# Altium footprint library Module.PcbLib: 47 footprints (part 4 of 4)
Each footprint in its own frame and in the unit in brackets; x right, y up, seen from the top. Pads: shape width x height; smd on the part's side, far side on the other; paste and mask are expansions set on the pad; w line width, h text height; cw(c..) or ccw(c..) is an arc to the next point about the centre after c.
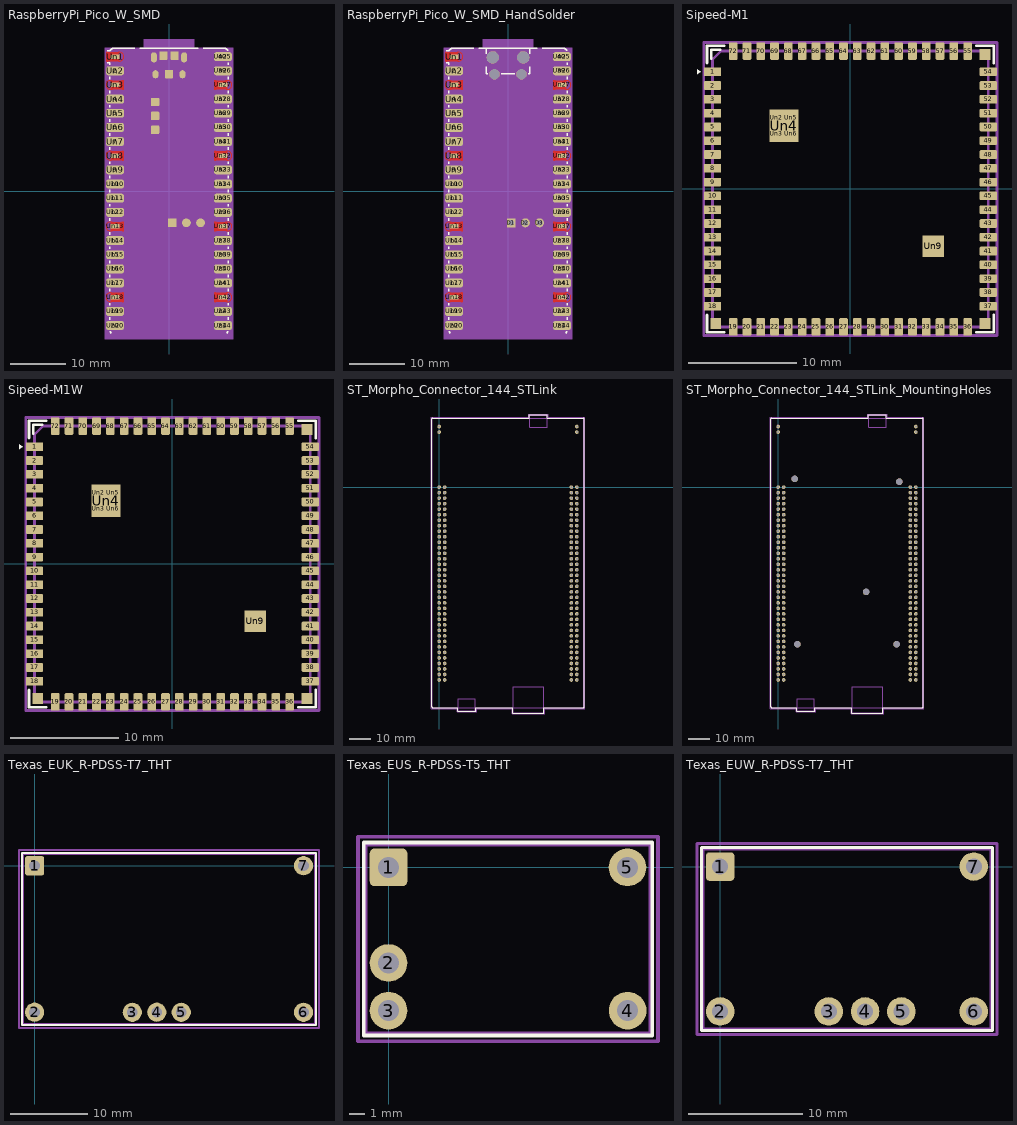
[diagram p3: the footprints below, top view; thin cyan lines are the x and y axes]

## RaspberryPi_Pico_W_SMD [mm]
pads (93):
  rect 1.6x0.8 smd: 1(-9.69,24.13) 3(-9.69,19.05) 8(-9.69,6.35) 13(-9.69,-6.35) 18(-9.69,-19.05) 23(9.69,-19.05) 28(9.69,-6.35) 33(9.69,6.35) 38(9.69,19.05)
  rrect50% 3.2x1.6 smd: 2(-9.69,21.59) 4(-9.69,16.51) 5(-9.69,13.97) 6(-9.69,11.43) 7(-9.69,8.89) 9(-9.69,3.81) 10(-9.69,1.27) 11(-9.69,-1.27) 12(-9.69,-3.81) 14(-9.69,-8.89) 15(-9.69,-11.43) 16(-9.69,-13.97) 17(-9.69,-16.51) 19(-9.69,-21.59) 20(-9.69,-24.13) 21(9.69,-24.13) 22(9.69,-21.59) 24(9.69,-16.51) 25(9.69,-13.97) 26(9.69,-11.43) 27(9.69,-8.89) 29(9.69,-3.81) 30(9.69,-1.27) 31(9.69,1.27) 32(9.69,3.81) 34(9.69,8.89) 35(9.69,11.43) 36(9.69,13.97) 37(9.69,16.51) 39(9.69,21.59) 40(9.69,24.13)
  rrect13% 1.575x1.575 smd: D1(0.584,-5.7)
  round 1.575 smd: D2(3.124,-5.7) D3(5.664,-5.7)
  rrect20% 1.5x1.5 smd: TP1(0,21) TP2(1,24.3) TP3(-1,24.3) TP4(-2.5,16) TP5(-2.5,13.5) TP6(-2.5,11)
  rect 3.8x2.2 on Top Paste: Un1(-9.69,24.13) Un2(-9.69,21.59) Un3(-9.69,19.05) Un4(-9.69,16.51) Un5(-9.69,13.97) Un6(-9.69,11.43) Un7(-9.69,8.89) Un8(-9.69,6.35) Un9(-9.69,3.81) Un10(-9.69,1.27) Un11(-9.69,-1.27) Un12(-9.69,-3.81) Un13(-9.69,-6.35) Un14(-9.69,-8.89) Un15(-9.69,-11.43) Un16(-9.69,-13.97) Un17(-9.69,-16.51) Un18(-9.69,-19.05) Un19(-9.69,-21.59) Un20(-9.69,-24.13) Un25(9.69,24.13) Un26(9.69,21.59) Un27(9.69,19.05) Un28(9.69,16.51) Un29(9.69,13.97) Un30(9.69,11.43) Un31(9.69,8.89) Un32(9.69,6.35) Un33(9.69,3.81) Un34(9.69,1.27) Un35(9.69,-1.27) Un36(9.69,-3.81) Un37(9.69,-6.35) Un38(9.69,-8.89) Un39(9.69,-11.43) Un40(9.69,-13.97) Un41(9.69,-16.51) Un42(9.69,-19.05) Un43(9.69,-21.59) Un44(9.69,-24.13)
  rrect100% 1.1x1.8 smd: Un21(-2.725,24) Un24(2.725,24)
  rrect100% 1.05x1.45 smd: Un22(-2.425,20.97) Un23(2.425,20.97)
F.Cu:
  circle w0: c8.29,18.45 r0.2
  circle w0: c8.29,19.65 r0.2
  circle w0: c10.49,19.05 r0.8
  circle w0: c8.29,5.75 r0.2
  circle w0: c8.29,6.95 r0.2
  circle w0: c10.49,6.35 r0.8
  circle w0: c8.29,-6.95 r0.2
  circle w0: c8.29,-5.75 r0.2
  circle w0: c10.49,-6.35 r0.8
  circle w0: c8.29,-19.65 r0.2
  circle w0: c8.29,-18.45 r0.2
  circle w0: c10.49,-19.05 r0.8
  circle w0: c-8.29,-19.65 r0.2
  circle w0: c-8.29,-18.45 r0.2
  circle w0: c-10.49,-19.05 r0.8
  circle w0: c-8.29,-6.95 r0.2
  circle w0: c-8.29,-5.75 r0.2
  circle w0: c-10.49,-6.35 r0.8
  circle w0: c-8.29,5.75 r0.2
  circle w0: c-8.29,6.95 r0.2
  circle w0: c-10.49,6.35 r0.8
  circle w0: c-8.29,18.45 r0.2
  circle w0: c-8.29,19.65 r0.2
  circle w0: c-10.49,19.05 r0.8
  circle w0: c-11.09,23.53 r0.2
  circle w0: c-11.09,24.73 r0.2
  circle w0: c-8.89,24.13 r0.8
  region: 10.49,18.25 8.29,18.25 8.09,18.45 8.09,19.65 8.29,19.85 10.49,19.85
  region: 10.49,5.55 8.29,5.55 8.09,5.75 8.09,6.95 8.29,7.15 10.49,7.15
  region: 10.49,-7.15 8.29,-7.15 8.09,-6.95 8.09,-5.75 8.29,-5.55 10.49,-5.55
  region: 10.49,-19.85 8.29,-19.85 8.09,-19.65 8.09,-18.45 8.29,-18.25 10.49,-18.25
  region: -8.09,-18.45 -8.09,-19.65 -8.29,-19.85 -10.49,-19.85 -10.49,-18.25 -8.29,-18.25
  region: -8.09,-5.75 -8.09,-6.95 -8.29,-7.15 -10.49,-7.15 -10.49,-5.55 -8.29,-5.55
  region: -8.09,6.95 -8.09,5.75 -8.29,5.55 -10.49,5.55 -10.49,7.15 -8.29,7.15
  region: -8.09,19.65 -8.09,18.45 -8.29,18.25 -10.49,18.25 -10.49,19.85 -8.29,19.85
  region: -8.89,23.33 -11.09,23.33 -11.29,23.53 -11.29,24.73 -11.09,24.93 -8.89,24.93
F.SilkS:
  lines w0.254: -11.09,23.07 -10.61,23.07 -10.61,22.65 ; -11.09,25.19 -10.58,25.19 cw(c-10,25) -10,25.61 -7.51,25.61 -6.162,25.61 ; -10.61,-23.07 -10.61,-22.65 ; -10.61,-20.53 -10.61,-20.11 ; -10.61,-17.99 -10.61,-17.57 ; -10.61,-15.45 -10.61,-15.03 ; -10.61,-12.91 -10.61,-12.49 ; -10.61,-10.37 -10.61,-9.95 ; -10.61,-7.83 -10.61,-7.41 ; -10.61,-5.29 -10.61,-4.87 ; -10.61,-2.75 -10.61,-2.33 ; -10.61,-0.21 -10.61,0.21 ; -10.61,2.33 -10.61,2.75 ; -10.61,4.87 -10.61,5.29 ; -10.61,7.41 -10.61,7.83 ; -10.61,9.95 -10.61,10.37 ; -10.61,12.49 -10.61,12.91 ; -10.61,15.03 -10.61,15.45 ; -10.61,17.57 -10.61,17.99 ; -10.61,20.11 -10.61,20.53 ; -10.58,-25.19 ccw(c-10,-25) -10.363,-25.49 ; -5.238,25.61 -4.235,25.61 4.235,25.61 5.238,25.61 ; 6.162,25.61 7.51,25.61 10,25.61 cw(c10,25) 10.58,25.19 ; 10.363,-25.49 ccw(c10,-25) 10.58,-25.19 ; 10.61,-23.07 10.61,-22.65 ; 10.61,-20.53 10.61,-20.11 ; 10.61,-17.99 10.61,-17.57 ; 10.61,-15.45 10.61,-15.03 ; 10.61,-12.91 10.61,-12.49 ; 10.61,-10.37 10.61,-9.95 ; 10.61,-7.83 10.61,-7.41 ; 10.61,-5.29 10.61,-4.87 ; 10.61,-2.75 10.61,-2.33 ; 10.61,-0.21 10.61,0.21 ; 10.61,2.33 10.61,2.75 ; 10.61,4.87 10.61,5.29 ; 10.61,7.41 10.61,7.83 ; 10.61,9.95 10.61,10.37 ; 10.61,12.49 10.61,12.91 ; 10.61,15.03 10.61,15.45 ; 10.61,17.57 10.61,17.99 ; 10.61,20.11 10.61,20.53 ; 10.61,22.65 10.61,23.07
F.Mask:
  circle w0: c8.29,18.45 r0.2
  circle w0: c8.29,19.65 r0.2
  circle w0: c10.49,19.05 r0.8
  circle w0: c8.29,5.75 r0.2
  circle w0: c8.29,6.95 r0.2
  circle w0: c10.49,6.35 r0.8
  circle w0: c8.29,-6.95 r0.2
  circle w0: c8.29,-5.75 r0.2
  circle w0: c10.49,-6.35 r0.8
  circle w0: c8.29,-19.65 r0.2
  circle w0: c8.29,-18.45 r0.2
  circle w0: c10.49,-19.05 r0.8
  circle w0: c-8.29,-19.65 r0.2
  circle w0: c-8.29,-18.45 r0.2
  circle w0: c-10.49,-19.05 r0.8
  circle w0: c-8.29,-6.95 r0.2
  circle w0: c-8.29,-5.75 r0.2
  circle w0: c-10.49,-6.35 r0.8
  circle w0: c-8.29,5.75 r0.2
  circle w0: c-8.29,6.95 r0.2
  circle w0: c-10.49,6.35 r0.8
  circle w0: c-8.29,18.45 r0.2
  circle w0: c-8.29,19.65 r0.2
  circle w0: c-10.49,19.05 r0.8
  circle w0: c-11.09,23.53 r0.2
  circle w0: c-11.09,24.73 r0.2
  circle w0: c-8.89,24.13 r0.8
  region: 10.49,18.25 8.29,18.25 8.09,18.45 8.09,19.65 8.29,19.85 10.49,19.85
  region: 10.49,5.55 8.29,5.55 8.09,5.75 8.09,6.95 8.29,7.15 10.49,7.15
  region: 10.49,-7.15 8.29,-7.15 8.09,-6.95 8.09,-5.75 8.29,-5.55 10.49,-5.55
  region: 10.49,-19.85 8.29,-19.85 8.09,-19.65 8.09,-18.45 8.29,-18.25 10.49,-18.25
  region: -8.09,-18.45 -8.09,-19.65 -8.29,-19.85 -10.49,-19.85 -10.49,-18.25 -8.29,-18.25
  region: -8.09,-5.75 -8.09,-6.95 -8.29,-7.15 -10.49,-7.15 -10.49,-5.55 -8.29,-5.55
  region: -8.09,6.95 -8.09,5.75 -8.29,5.55 -10.49,5.55 -10.49,7.15 -8.29,7.15
  region: -8.09,19.65 -8.09,18.45 -8.29,18.25 -10.49,18.25 -10.49,19.85 -8.29,19.85
  region: -8.89,23.33 -11.09,23.33 -11.29,23.53 -11.29,24.73 -11.09,24.93 -8.89,24.93
Top Assembly:
  region: 4,26.2 3.79,26.2 3.79,21.2 -3.79,21.2 -3.79,26.2 -4,26.2 -4,26.8 4,26.8
  lines w0.254: -10.5,-25 ccw(c-10,-25) -10,-25.5 10,-25.5 ccw(c10,-25) 10.5,-25 10.5,25 ccw(c10,25) 10,25.5 -9.5,25.5 -10.5,24.5 -10.5,-25 ; -6.5,20.3 -4.9,20.3 -4.9,21.1 -6.5,21.1 -6.5,20.3 ; -6.2,20.3 -5.2,20.3 -5.2,21.1 -6.2,21.1 -6.2,20.3 ; -5.1,11.375 -1.9,11.375 -1.9,15.625 -5.1,15.625 -5.1,11.375 ; -4.625,12.925 ccw(c-3.5,12.925) -2.375,12.925 -2.375,14.075 ccw(c-3.5,14.075) -4.625,14.075 -4.625,12.925
  text "'.Designator'" at 0.84,-4.047 h1
Top Courtyard:
  region: 4.5,25.75 11.54,25.75 11.54,-26.55 -11.54,-26.55 -11.54,25.75 -4.5,25.75 -4.5,27.3 4.5,27.3
Top Designator:
  text ".Designator" at -7.621,-4.175 h1.52
Dwgs.User:
  circle w0.254: c5.7,-23.5 r1.05
  circle w0.254: c5.7,23.5 r1.05
  circle w0.254: c-5.7,-23.5 r1.05
  circle w0.254: c-5.7,23.5 r1.05
Cmts.User:
  text "2.4 GHz RF Keep Out" at -7.594,-32.567 h1
  text "Keep unobstructed by metal as far as possible in all dimensions" at -11.334,-34.393 h0.5
  text "^ Suggested board edge for RF ^" at -5.994,-18.188 h0.5
  text "Keep Out" at -3.247,-22.407 h1
  text "Antenna" at -2.766,-20.335 h1
  text "^ Suggested board edge for RF ^" at -20.044,-27.078 h0.5
  text "^ Suggested board edge for RF ^" at 8.056,-27.078 h0.5

## RaspberryPi_Pico_W_SMD_HandSolder [mm]
pads (87):
  rect 1.6x0.8 smd: 1(-9.69,24.13) 3(-9.69,19.05) 8(-9.69,6.35) 13(-9.69,-6.35) 18(-9.69,-19.05) 23(9.69,-19.05) 28(9.69,-6.35) 33(9.69,6.35) 38(9.69,19.05)
  rrect50% 3.2x1.6 smd: 2(-9.69,21.59) 4(-9.69,16.51) 5(-9.69,13.97) 6(-9.69,11.43) 7(-9.69,8.89) 9(-9.69,3.81) 10(-9.69,1.27) 11(-9.69,-1.27) 12(-9.69,-3.81) 14(-9.69,-8.89) 15(-9.69,-11.43) 16(-9.69,-13.97) 17(-9.69,-16.51) 19(-9.69,-21.59) 20(-9.69,-24.13) 21(9.69,-24.13) 22(9.69,-21.59) 24(9.69,-16.51) 25(9.69,-13.97) 26(9.69,-11.43) 27(9.69,-8.89) 29(9.69,-3.81) 30(9.69,-1.27) 31(9.69,1.27) 32(9.69,3.81) 34(9.69,8.89) 35(9.69,11.43) 36(9.69,13.97) 37(9.69,16.51) 39(9.69,21.59) 40(9.69,24.13)
  rrect12% 1.6x1.6 hole 1: D1(0.584,-5.7)
  round 1.6 hole 1: D2(3.124,-5.7) D3(5.664,-5.7)
  rect 3.8x2.2 on Top Paste: Un1(-9.69,24.13) Un2(-9.69,21.59) Un3(-9.69,19.05) Un4(-9.69,16.51) Un5(-9.69,13.97) Un6(-9.69,11.43) Un7(-9.69,8.89) Un8(-9.69,6.35) Un9(-9.69,3.81) Un10(-9.69,1.27) Un11(-9.69,-1.27) Un12(-9.69,-3.81) Un13(-9.69,-6.35) Un14(-9.69,-8.89) Un15(-9.69,-11.43) Un16(-9.69,-13.97) Un17(-9.69,-16.51) Un18(-9.69,-19.05) Un19(-9.69,-21.59) Un20(-9.69,-24.13) Un25(9.69,24.13) Un26(9.69,21.59) Un27(9.69,19.05) Un28(9.69,16.51) Un29(9.69,13.97) Un30(9.69,11.43) Un31(9.69,8.89) Un32(9.69,6.35) Un33(9.69,3.81) Un34(9.69,1.27) Un35(9.69,-1.27) Un36(9.69,-3.81) Un37(9.69,-6.35) Un38(9.69,-8.89) Un39(9.69,-11.43) Un40(9.69,-13.97) Un41(9.69,-16.51) Un42(9.69,-19.05) Un43(9.69,-21.59) Un44(9.69,-24.13)
  round 2.2 hole 2.2: Un21(-2.725,24) Un24(2.725,24)
  round 1.85 hole 1.85: Un22(-2.425,20.97) Un23(2.425,20.97)
F.Cu:
  circle w0: c-8.89,24.13 r0.8
  circle w0: c-11.09,24.73 r0.2
  circle w0: c-11.09,23.53 r0.2
  circle w0: c-10.49,19.05 r0.8
  circle w0: c-8.29,19.65 r0.2
  circle w0: c-8.29,18.45 r0.2
  circle w0: c-10.49,6.35 r0.8
  circle w0: c-8.29,6.95 r0.2
  circle w0: c-8.29,5.75 r0.2
  circle w0: c-10.49,-6.35 r0.8
  circle w0: c-8.29,-5.75 r0.2
  circle w0: c-8.29,-6.95 r0.2
  circle w0: c-10.49,-19.05 r0.8
  circle w0: c-8.29,-18.45 r0.2
  circle w0: c-8.29,-19.65 r0.2
  circle w0: c10.49,-19.05 r0.8
  circle w0: c8.29,-18.45 r0.2
  circle w0: c8.29,-19.65 r0.2
  circle w0: c10.49,-6.35 r0.8
  circle w0: c8.29,-5.75 r0.2
  circle w0: c8.29,-6.95 r0.2
  circle w0: c10.49,6.35 r0.8
  circle w0: c8.29,6.95 r0.2
  circle w0: c8.29,5.75 r0.2
  circle w0: c10.49,19.05 r0.8
  circle w0: c8.29,19.65 r0.2
  circle w0: c8.29,18.45 r0.2
  region: -8.89,23.33 -11.09,23.33 -11.29,23.53 -11.29,24.73 -11.09,24.93 -8.89,24.93
  region: -8.09,19.65 -8.09,18.45 -8.29,18.25 -10.49,18.25 -10.49,19.85 -8.29,19.85
  region: -8.09,6.95 -8.09,5.75 -8.29,5.55 -10.49,5.55 -10.49,7.15 -8.29,7.15
  region: -8.09,-5.75 -8.09,-6.95 -8.29,-7.15 -10.49,-7.15 -10.49,-5.55 -8.29,-5.55
  region: -8.09,-18.45 -8.09,-19.65 -8.29,-19.85 -10.49,-19.85 -10.49,-18.25 -8.29,-18.25
  region: 10.49,-19.85 8.29,-19.85 8.09,-19.65 8.09,-18.45 8.29,-18.25 10.49,-18.25
  region: 10.49,-7.15 8.29,-7.15 8.09,-6.95 8.09,-5.75 8.29,-5.55 10.49,-5.55
  region: 10.49,5.55 8.29,5.55 8.09,5.75 8.09,6.95 8.29,7.15 10.49,7.15
  region: 10.49,18.25 8.29,18.25 8.09,18.45 8.09,19.65 8.29,19.85 10.49,19.85
F.SilkS:
  lines w0.254: -11.09,23.07 -10.61,23.07 -10.61,22.65 ; -11.09,25.19 -10.58,25.19 cw(c-10,25) -10,25.61 -7.51,25.61 -6.162,25.61 ; -10.61,-23.07 -10.61,-22.65 ; -10.61,-20.53 -10.61,-20.11 ; -10.61,-17.99 -10.61,-17.57 ; -10.61,-15.45 -10.61,-15.03 ; -10.61,-12.91 -10.61,-12.49 ; -10.61,-10.37 -10.61,-9.95 ; -10.61,-7.83 -10.61,-7.41 ; -10.61,-5.29 -10.61,-4.87 ; -10.61,-2.75 -10.61,-2.33 ; -10.61,-0.21 -10.61,0.21 ; -10.61,2.33 -10.61,2.75 ; -10.61,4.87 -10.61,5.29 ; -10.61,7.41 -10.61,7.83 ; -10.61,9.95 -10.61,10.37 ; -10.61,12.49 -10.61,12.91 ; -10.61,15.03 -10.61,15.45 ; -10.61,17.57 -10.61,17.99 ; -10.61,20.11 -10.61,20.53 ; -10.58,-25.19 ccw(c-10,-25) -10.363,-25.49 ; -5.238,25.61 -4.235,25.61 4.235,25.61 5.238,25.61 ; -3.9,22.306 -3.9,21.09 -3.604,21.09 ; -3.9,24.694 -3.9,25.61 ; -1.246,21.09 1.246,21.09 ; 3.604,21.09 3.9,21.09 3.9,22.306 ; 3.9,24.694 3.9,25.61 ; 6.162,25.61 7.51,25.61 10,25.61 cw(c10,25) 10.58,25.19 ; 10.363,-25.49 ccw(c10,-25) 10.58,-25.19 ; 10.61,-23.07 10.61,-22.65 ; 10.61,-20.53 10.61,-20.11 ; 10.61,-17.99 10.61,-17.57 ; 10.61,-15.45 10.61,-15.03 ; 10.61,-12.91 10.61,-12.49 ; 10.61,-10.37 10.61,-9.95 ; 10.61,-7.83 10.61,-7.41 ; 10.61,-5.29 10.61,-4.87 ; 10.61,-2.75 10.61,-2.33 ; 10.61,-0.21 10.61,0.21 ; 10.61,2.33 10.61,2.75 ; 10.61,4.87 10.61,5.29 ; 10.61,7.41 10.61,7.83 ; 10.61,9.95 10.61,10.37 ; 10.61,12.49 10.61,12.91 ; 10.61,15.03 10.61,15.45 ; 10.61,17.57 10.61,17.99 ; 10.61,20.11 10.61,20.53 ; 10.61,22.65 10.61,23.07
F.Mask:
  circle w0: c-8.89,24.13 r0.8
  circle w0: c-11.09,24.73 r0.2
  circle w0: c-11.09,23.53 r0.2
  circle w0: c-10.49,19.05 r0.8
  circle w0: c-8.29,19.65 r0.2
  circle w0: c-8.29,18.45 r0.2
  circle w0: c-10.49,6.35 r0.8
  circle w0: c-8.29,6.95 r0.2
  circle w0: c-8.29,5.75 r0.2
  circle w0: c-10.49,-6.35 r0.8
  circle w0: c-8.29,-5.75 r0.2
  circle w0: c-8.29,-6.95 r0.2
  circle w0: c-10.49,-19.05 r0.8
  circle w0: c-8.29,-18.45 r0.2
  circle w0: c-8.29,-19.65 r0.2
  circle w0: c10.49,-19.05 r0.8
  circle w0: c8.29,-18.45 r0.2
  circle w0: c8.29,-19.65 r0.2
  circle w0: c10.49,-6.35 r0.8
  circle w0: c8.29,-5.75 r0.2
  circle w0: c8.29,-6.95 r0.2
  circle w0: c10.49,6.35 r0.8
  circle w0: c8.29,6.95 r0.2
  circle w0: c8.29,5.75 r0.2
  circle w0: c10.49,19.05 r0.8
  circle w0: c8.29,19.65 r0.2
  circle w0: c8.29,18.45 r0.2
  region: -8.89,23.33 -11.09,23.33 -11.29,23.53 -11.29,24.73 -11.09,24.93 -8.89,24.93
  region: -8.09,19.65 -8.09,18.45 -8.29,18.25 -10.49,18.25 -10.49,19.85 -8.29,19.85
  region: -8.09,6.95 -8.09,5.75 -8.29,5.55 -10.49,5.55 -10.49,7.15 -8.29,7.15
  region: -8.09,-5.75 -8.09,-6.95 -8.29,-7.15 -10.49,-7.15 -10.49,-5.55 -8.29,-5.55
  region: -8.09,-18.45 -8.09,-19.65 -8.29,-19.85 -10.49,-19.85 -10.49,-18.25 -8.29,-18.25
  region: 10.49,-19.85 8.29,-19.85 8.09,-19.65 8.09,-18.45 8.29,-18.25 10.49,-18.25
  region: 10.49,-7.15 8.29,-7.15 8.09,-6.95 8.09,-5.75 8.29,-5.55 10.49,-5.55
  region: 10.49,5.55 8.29,5.55 8.09,5.75 8.09,6.95 8.29,7.15 10.49,7.15
  region: 10.49,18.25 8.29,18.25 8.09,18.45 8.09,19.65 8.29,19.85 10.49,19.85
Top Assembly:
  region: 4,26.2 3.79,26.2 3.79,21.2 -3.79,21.2 -3.79,26.2 -4,26.2 -4,26.8 4,26.8
  lines w0.254: -10.5,-25 ccw(c-10,-25) -10,-25.5 10,-25.5 ccw(c10,-25) 10.5,-25 10.5,25 ccw(c10,25) 10,25.5 -9.5,25.5 -10.5,24.5 -10.5,-25 ; -6.5,20.3 -6.5,21.1 -4.9,21.1 -4.9,20.3 -6.5,20.3 ; -6.2,20.3 -6.2,21.1 -5.2,21.1 -5.2,20.3 -6.2,20.3 ; -5.1,11.375 -5.1,15.625 -1.9,15.625 -1.9,11.375 -5.1,11.375 ; -4.625,12.925 ccw(c-3.5,12.925) -2.375,12.925 -2.375,14.075 ccw(c-3.5,14.075) -4.625,14.075 -4.625,12.925
  text "'.Designator'" at 0.84,-4.047 h1
Top Courtyard:
  region: 4.5,25.75 11.54,25.75 11.54,-26.55 -11.54,-26.55 -11.54,25.75 -4.5,25.75 -4.5,27.3 4.5,27.3
Top Designator:
  text ".Designator" at -7.621,1.792 h1.52
Dwgs.User:
  circle w0.254: c-5.7,23.5 r1.05
  circle w0.254: c-5.7,-23.5 r1.05
  circle w0.254: c5.7,23.5 r1.05
  circle w0.254: c5.7,-23.5 r1.05
Cmts.User:
  text "Antenna" at -2.766,-20.335 h1
  text "^ Suggested board edge for RF ^" at -20.044,-27.078 h0.5
  text "Keep unobstructed by metal as far as possible in all dimensions" at -11.334,-34.393 h0.5
  text "USB Cable" at -3.604,38.085 h1
  text "Keep Out" at -3.247,35.378 h1
  text "Exposed" at -0.922,24.345 h0.33
  text "Out" at -0.41,20.466 h0.33
  text "^ Suggested board edge for RF ^" at 8.056,-27.078 h0.5
  text "^ Suggested board edge for RF ^" at -5.994,-18.188 h0.5
  text "Keep Out" at -3.247,-22.407 h1
  text "2.4 GHz RF Keep Out" at -7.594,-32.567 h1
  text "Copper" at -0.812,23.71 h0.33
  text "Exposed Copper Keep Out" at -2.228,11.213 h0.33
  text "Keep" at -0.555,21.045 h0.33

## Sipeed-M1 [mm]
pads (85):
  rrect25% 1.6x0.8 smd: 1(-12.7,10.795) 2(-12.7,9.525) 3(-12.7,8.255) 4(-12.7,6.985) 5(-12.7,5.715) 6(-12.7,4.445) 7(-12.7,3.175) 8(-12.7,1.905) 9(-12.7,0.635) 10(-12.7,-0.635) 11(-12.7,-1.905) 12(-12.7,-3.175) 13(-12.7,-4.445) 14(-12.7,-5.715) 15(-12.7,-6.985) 16(-12.7,-8.255) 17(-12.7,-9.525) 18(-12.7,-10.795) 37(12.7,-10.795) 38(12.7,-9.525) 39(12.7,-8.255) 40(12.7,-6.985) 41(12.7,-5.715) 42(12.7,-4.445) 43(12.7,-3.175) 44(12.7,-1.905) 45(12.7,-0.635) 46(12.7,0.635) 47(12.7,1.905) 48(12.7,3.175) 49(12.7,4.445) 50(12.7,5.715) 51(12.7,6.985) 52(12.7,8.255) 53(12.7,9.525) 54(12.7,10.795)
  rrect25% 0.8x1.6 smd: 19(-10.795,-12.7) 20(-9.525,-12.7) 21(-8.255,-12.7) 22(-6.985,-12.7) 23(-5.715,-12.7) 24(-4.445,-12.7) 25(-3.175,-12.7) 26(-1.905,-12.7) 27(-0.635,-12.7) 28(0.635,-12.7) 29(1.905,-12.7) 30(3.175,-12.7) 31(4.445,-12.7) 32(5.715,-12.7) 33(6.985,-12.7) 34(8.255,-12.7) 35(9.525,-12.7) 36(10.795,-12.7) 55(10.793,12.7) 56(9.523,12.7) 57(8.253,12.7) 58(6.983,12.7) 59(5.713,12.7) 60(4.443,12.7) 61(3.173,12.7) 62(1.903,12.7) 63(0.633,12.7) 64(-0.637,12.7) 65(-1.907,12.7) 66(-3.177,12.7) 67(-4.447,12.7) 68(-5.717,12.7) 69(-6.987,12.7) 70(-8.257,12.7) 71(-9.527,12.7) 72(-10.797,12.7)
  rect 1x1 smd: Un1(-12.4,-12.4) Un12(12.4,12.4) Un13(12.4,-12.4)
  rrect25% 1.18x1.355 on Top Paste: Un2(-6.8,6.582) Un3(-6.8,5.078) Un5(-5.47,6.582) Un6(-5.47,5.078)
  rect 2.67x3.02 smd: Un4(-6.135,5.83)
  rrect25% 0.835x0.835 on Top Paste: Un7(7.157,-4.762) Un8(7.157,-5.753) Un10(8.143,-4.762) Un11(8.143,-5.753)
  rect 1.98x1.98 smd: Un9(7.65,-5.26)
F.SilkS:
  region: -13.8,10.8 -14.13,10.56 -14.13,11.04
  lines w0.254: -13.2,-11.61 -13.2,-13.2 -11.61,-13.2 ; -13.2,11.61 -13.2,13.2 -11.61,13.2 ; -12.82,12 -12.82,12.82 -12,12.82 ; 11.61,-13.2 13.2,-13.2 13.2,-11.61 ; 11.61,13.2 13.2,13.2 13.2,11.61
Top Assembly:
  lines w0.254: -12.7,-12.7 12.7,-12.7 12.7,12.7 -11.938,12.7 -12.7,11.938 -12.7,-12.7
  text "'.Designator'" at -4.047,-0.84 h1
Top Courtyard:
  lines w0.254: -13.5,-13.5 13.5,-13.5 13.5,13.5 -13.5,13.5 -13.5,-13.5
Top Designator:
  text ".Designator" at -7.869,-0.508 h1.52
3D body "Sipeed-M1.step": height 3.3, standoff 0, extent -12.7,-12.7 12.7,12.7

## Sipeed-M1W [mm]
pads (85):
  rrect25% 1.6x0.8 smd: 1(-12.7,10.795) 2(-12.7,9.525) 3(-12.7,8.255) 4(-12.7,6.985) 5(-12.7,5.715) 6(-12.7,4.445) 7(-12.7,3.175) 8(-12.7,1.905) 9(-12.7,0.635) 10(-12.7,-0.635) 11(-12.7,-1.905) 12(-12.7,-3.175) 13(-12.7,-4.445) 14(-12.7,-5.715) 15(-12.7,-6.985) 16(-12.7,-8.255) 17(-12.7,-9.525) 18(-12.7,-10.795) 37(12.7,-10.795) 38(12.7,-9.525) 39(12.7,-8.255) 40(12.7,-6.985) 41(12.7,-5.715) 42(12.7,-4.445) 43(12.7,-3.175) 44(12.7,-1.905) 45(12.7,-0.635) 46(12.7,0.635) 47(12.7,1.905) 48(12.7,3.175) 49(12.7,4.445) 50(12.7,5.715) 51(12.7,6.985) 52(12.7,8.255) 53(12.7,9.525) 54(12.7,10.795)
  rrect25% 0.8x1.6 smd: 19(-10.795,-12.7) 20(-9.525,-12.7) 21(-8.255,-12.7) 22(-6.985,-12.7) 23(-5.715,-12.7) 24(-4.445,-12.7) 25(-3.175,-12.7) 26(-1.905,-12.7) 27(-0.635,-12.7) 28(0.635,-12.7) 29(1.905,-12.7) 30(3.175,-12.7) 31(4.445,-12.7) 32(5.715,-12.7) 33(6.985,-12.7) 34(8.255,-12.7) 35(9.525,-12.7) 36(10.795,-12.7) 55(10.793,12.7) 56(9.523,12.7) 57(8.253,12.7) 58(6.983,12.7) 59(5.713,12.7) 60(4.443,12.7) 61(3.173,12.7) 62(1.903,12.7) 63(0.633,12.7) 64(-0.637,12.7) 65(-1.907,12.7) 66(-3.177,12.7) 67(-4.447,12.7) 68(-5.717,12.7) 69(-6.987,12.7) 70(-8.257,12.7) 71(-9.527,12.7) 72(-10.797,12.7)
  rect 1x1 smd: Un1(-12.4,-12.4) Un12(12.4,12.4) Un13(12.4,-12.4)
  rrect25% 1.18x1.355 on Top Paste: Un2(-6.8,6.582) Un3(-6.8,5.078) Un5(-5.47,6.582) Un6(-5.47,5.078)
  rect 2.67x3.02 smd: Un4(-6.135,5.83)
  rrect25% 0.835x0.835 on Top Paste: Un7(7.157,-4.762) Un8(7.157,-5.753) Un10(8.143,-4.762) Un11(8.143,-5.753)
  rect 1.98x1.98 smd: Un9(7.65,-5.26)
F.SilkS:
  region: -13.8,10.8 -14.13,10.56 -14.13,11.04
  lines w0.254: -13.2,-11.61 -13.2,-13.2 -11.61,-13.2 ; -13.2,11.61 -13.2,13.2 -11.61,13.2 ; -12.82,12 -12.82,12.82 -12,12.82 ; 11.61,-13.2 13.2,-13.2 13.2,-11.61 ; 11.61,13.2 13.2,13.2 13.2,11.61
Top Assembly:
  lines w0.254: -12.7,-12.7 -12.7,11.938 -11.938,12.7 12.7,12.7 12.7,-12.7 -12.7,-12.7
  text "'.Designator'" at -4.066,-0.84 h1
Top Courtyard:
  lines w0.254: -13.5,-13.5 -13.5,13.5 13.5,13.5 13.5,-13.5 -13.5,-13.5
Top Designator:
  text ".Designator" at -7.869,-0.508 h1.52
3D body "Sipeed-M1W.step": height 3.3, standoff 0, extent -12.681,-12.7 12.719,12.7

## ST_Morpho_Connector_144_STLink [mm]
pads (148):
  round 1.7 hole 1: 1(0,0) 2(2.54,0) 3(0,-2.54) 4(2.54,-2.54) 5(0,-5.08) 6(2.54,-5.08) 7(0,-7.62) 8(2.54,-7.62) 9(0,-10.16) 10(2.54,-10.16) 11(0,-12.7) 12(2.54,-12.7) 13(0,-15.24) 14(2.54,-15.24) 15(0,-17.78) 16(2.54,-17.78) 17(0,-20.32) 18(2.54,-20.32) 19(0,-22.86) 20(2.54,-22.86) 21(0,-25.4) 22(2.54,-25.4) 23(0,-27.94) 24(2.54,-27.94) 25(0,-30.48) 26(2.54,-30.48) 27(0,-33.02) 28(2.54,-33.02) 29(0,-35.56) 30(2.54,-35.56) 31(0,-38.1) 32(2.54,-38.1) 33(0,-40.64) 34(2.54,-40.64) 35(0,-43.18) 36(2.54,-43.18) 37(0,-45.72) 38(2.54,-45.72) 39(0,-48.26) 40(2.54,-48.26) 41(0,-50.8) 42(2.54,-50.8) 43(0,-53.34) 44(2.54,-53.34) 45(0,-55.88) 46(2.54,-55.88) 47(0,-58.42) 48(2.54,-58.42) 49(0,-60.96) 50(2.54,-60.96) 51(0,-63.5) 52(2.54,-63.5) 53(0,-66.04) 54(2.54,-66.04) 55(0,-68.58) 56(2.54,-68.58) 57(0,-71.12) 58(2.54,-71.12) 59(0,-73.66) 60(2.54,-73.66) 61(0,-76.2) 62(2.54,-76.2) 63(0,-78.74) 64(2.54,-78.74) 65(0,-81.28) 66(2.54,-81.28) 67(0,-83.82) 68(2.54,-83.82) 69(0,-86.36) 70(2.54,-86.36) 71(0,-88.9) 72(2.54,-88.9) 73(60.96,0) 74(63.5,0) 75(60.96,-2.54) 76(63.5,-2.54) 77(60.96,-5.08) 78(63.5,-5.08) 79(60.96,-7.62) 80(63.5,-7.62) 81(60.96,-10.16) 82(63.5,-10.16) 83(60.96,-12.7) 84(63.5,-12.7) 85(60.96,-15.24) 86(63.5,-15.24) 87(60.96,-17.78) 88(63.5,-17.78) 89(60.96,-20.32) 90(63.5,-20.32) 91(60.96,-22.86) 92(63.5,-22.86) 93(60.96,-25.4) 94(63.5,-25.4) 95(60.96,-27.94) 96(63.5,-27.94) 97(60.96,-30.48) 98(63.5,-30.48) 99(60.96,-33.02) 100(63.5,-33.02) 101(60.96,-35.56) 102(63.5,-35.56) 103(60.96,-38.1) 104(63.5,-38.1) 105(60.96,-40.64) 106(63.5,-40.64) 107(60.96,-43.18) 108(63.5,-43.18) 109(60.96,-45.72) 110(63.5,-45.72) 111(60.96,-48.26) 112(63.5,-48.26) 113(60.96,-50.8) 114(63.5,-50.8) 115(60.96,-53.34) 116(63.5,-53.34) 117(60.96,-55.88) 118(63.5,-55.88) 119(60.96,-58.42) 120(63.5,-58.42) 121(60.96,-60.96) 122(63.5,-60.96) 123(60.96,-63.5) 124(63.5,-63.5) 125(60.96,-66.04) 126(63.5,-66.04) 127(60.96,-68.58) 128(63.5,-68.58) 129(60.96,-71.12) 130(63.5,-71.12) 131(60.96,-73.66) 132(63.5,-73.66) 133(60.96,-76.2) 134(63.5,-76.2) 135(60.96,-78.74) 136(63.5,-78.74) 137(60.96,-81.28) 138(63.5,-81.28) 139(60.96,-83.82) 140(63.5,-83.82) 141(60.96,-86.36) 142(63.5,-86.36) 143(60.96,-88.9) 144(63.5,-88.9) 145(0,27.94) 146(0,25.4) 147(63.5,27.94) 148(63.5,25.4)
F.SilkS:
  lines w0.254: -3.35,-101.36 ccw(c-2.95,-101.36) -2.95,-101.76 8.64,-101.76 8.64,-103.27 16.86,-103.27 16.86,-101.75 34.04,-101.76 34.04,-104.21 48.26,-104.21 48.26,-101.76 66.45,-101.76 ccw(c66.45,-101.36) 66.85,-101.36 66.85,31.44 ccw(c66.45,31.44) 66.45,31.84 49.86,31.84 49.86,33.35 41.64,33.35 41.64,31.84 -2.95,31.84 ccw(c-2.95,31.44) -3.35,31.44 -3.35,-101.36
Top Assembly:
  lines w0.254: 8.75,-97.66 16.75,-97.66 16.75,-103.16 8.75,-103.16 8.75,-97.65 ; -3.25,-101.36 ccw(c-2.95,-101.36) -2.95,-101.66 66.45,-101.66 ccw(c66.45,-101.36) 66.75,-101.36 66.75,31.44 ccw(c66.45,31.44) 66.45,31.74 -2.95,31.74 ccw(c-2.95,31.44) -3.25,31.44 -3.25,-101.36 ; 34.15,-104.1 48.15,-104.1 48.15,-92.1 34.15,-92.1 34.15,-104.1 ; 41.75,27.74 49.75,27.74 49.75,33.24 41.75,33.24 41.75,27.74
  text "'.Designator'" at 27.703,-35.8 h1
Top Courtyard:
  lines w0.254: -3.75,-102.16 8.25,-102.16 8.25,-103.67 17.25,-103.67 17.25,-102.16 33.66,-102.16 33.66,-104.6 48.65,-104.6 48.65,-102.16 67.25,-102.16 67.25,32.24 50.25,32.24 50.25,33.74 41.25,33.74 41.25,32.24 -3.75,32.24 -3.75,-102.16
Top Designator:
  text ".Designator" at 24.132,-35.938 h1.52

## ST_Morpho_Connector_144_STLink_MountingHoles [mm]
pads (153):
  round 1.7 hole 1: 1(0,0) 2(2.54,0) 3(0,-2.54) 4(2.54,-2.54) 5(0,-5.08) 6(2.54,-5.08) 7(0,-7.62) 8(2.54,-7.62) 9(0,-10.16) 10(2.54,-10.16) 11(0,-12.7) 12(2.54,-12.7) 13(0,-15.24) 14(2.54,-15.24) 15(0,-17.78) 16(2.54,-17.78) 17(0,-20.32) 18(2.54,-20.32) 19(0,-22.86) 20(2.54,-22.86) 21(0,-25.4) 22(2.54,-25.4) 23(0,-27.94) 24(2.54,-27.94) 25(0,-30.48) 26(2.54,-30.48) 27(0,-33.02) 28(2.54,-33.02) 29(0,-35.56) 30(2.54,-35.56) 31(0,-38.1) 32(2.54,-38.1) 33(0,-40.64) 34(2.54,-40.64) 35(0,-43.18) 36(2.54,-43.18) 37(0,-45.72) 38(2.54,-45.72) 39(0,-48.26) 40(2.54,-48.26) 41(0,-50.8) 42(2.54,-50.8) 43(0,-53.34) 44(2.54,-53.34) 45(0,-55.88) 46(2.54,-55.88) 47(0,-58.42) 48(2.54,-58.42) 49(0,-60.96) 50(2.54,-60.96) 51(0,-63.5) 52(2.54,-63.5) 53(0,-66.04) 54(2.54,-66.04) 55(0,-68.58) 56(2.54,-68.58) 57(0,-71.12) 58(2.54,-71.12) 59(0,-73.66) 60(2.54,-73.66) 61(0,-76.2) 62(2.54,-76.2) 63(0,-78.74) 64(2.54,-78.74) 65(0,-81.28) 66(2.54,-81.28) 67(0,-83.82) 68(2.54,-83.82) 69(0,-86.36) 70(2.54,-86.36) 71(0,-88.9) 72(2.54,-88.9) 73(60.96,0) 74(63.5,0) 75(60.96,-2.54) 76(63.5,-2.54) 77(60.96,-5.08) 78(63.5,-5.08) 79(60.96,-7.62) 80(63.5,-7.62) 81(60.96,-10.16) 82(63.5,-10.16) 83(60.96,-12.7) 84(63.5,-12.7) 85(60.96,-15.24) 86(63.5,-15.24) 87(60.96,-17.78) 88(63.5,-17.78) 89(60.96,-20.32) 90(63.5,-20.32) 91(60.96,-22.86) 92(63.5,-22.86) 93(60.96,-25.4) 94(63.5,-25.4) 95(60.96,-27.94) 96(63.5,-27.94) 97(60.96,-30.48) 98(63.5,-30.48) 99(60.96,-33.02) 100(63.5,-33.02) 101(60.96,-35.56) 102(63.5,-35.56) 103(60.96,-38.1) 104(63.5,-38.1) 105(60.96,-40.64) 106(63.5,-40.64) 107(60.96,-43.18) 108(63.5,-43.18) 109(60.96,-45.72) 110(63.5,-45.72) 111(60.96,-48.26) 112(63.5,-48.26) 113(60.96,-50.8) 114(63.5,-50.8) 115(60.96,-53.34) 116(63.5,-53.34) 117(60.96,-55.88) 118(63.5,-55.88) 119(60.96,-58.42) 120(63.5,-58.42) 121(60.96,-60.96) 122(63.5,-60.96) 123(60.96,-63.5) 124(63.5,-63.5) 125(60.96,-66.04) 126(63.5,-66.04) 127(60.96,-68.58) 128(63.5,-68.58) 129(60.96,-71.12) 130(63.5,-71.12) 131(60.96,-73.66) 132(63.5,-73.66) 133(60.96,-76.2) 134(63.5,-76.2) 135(60.96,-78.74) 136(63.5,-78.74) 137(60.96,-81.28) 138(63.5,-81.28) 139(60.96,-83.82) 140(63.5,-83.82) 141(60.96,-86.36) 142(63.5,-86.36) 143(60.96,-88.9) 144(63.5,-88.9) 145(0,27.94) 146(0,25.4) 147(63.5,27.94) 148(63.5,25.4)
  round 3 hole 3: Un1(7.62,3.81) Un2(8.89,-72.39) Un3(40.55,-48.3) Un4(54.6,-72.4) Un5(55.9,2.5)
F.SilkS:
  lines w0.254: -3.35,-101.36 ccw(c-2.95,-101.36) -2.95,-101.76 8.64,-101.76 8.64,-103.27 16.86,-103.27 16.86,-101.75 34.04,-101.76 34.04,-104.21 48.26,-104.21 48.26,-101.76 66.45,-101.76 ccw(c66.45,-101.36) 66.85,-101.36 66.85,31.44 ccw(c66.45,31.44) 66.45,31.84 49.86,31.84 49.86,33.35 41.64,33.35 41.64,31.84 -2.95,31.84 ccw(c-2.95,31.44) -3.35,31.44 -3.35,-101.36
Top Assembly:
  lines w0.254: 8.75,-97.66 16.75,-97.66 16.75,-103.16 8.75,-103.16 8.75,-97.65 ; -3.25,-101.36 ccw(c-2.95,-101.36) -2.95,-101.66 66.45,-101.66 ccw(c66.45,-101.36) 66.75,-101.36 66.75,31.44 ccw(c66.45,31.44) 66.45,31.74 -2.95,31.74 ccw(c-2.95,31.44) -3.25,31.44 -3.25,-101.36 ; 34.15,-104.1 48.15,-104.1 48.15,-92.1 34.15,-92.1 34.15,-104.1 ; 41.75,27.74 49.75,27.74 49.75,33.24 41.75,33.24 41.75,27.74
  text "'.Designator'" at 27.703,-35.8 h1
Top Courtyard:
  lines w0.254: -3.75,-102.16 8.25,-102.16 8.25,-103.67 17.25,-103.67 17.25,-102.16 33.66,-102.16 33.66,-104.6 48.65,-104.6 48.65,-102.16 67.25,-102.16 67.25,32.24 50.25,32.24 50.25,33.74 41.25,33.74 41.25,32.24 -3.75,32.24 -3.75,-102.16
Top Designator:
  text ".Designator" at 24.132,-35.938 h1.52

## Texas_EUK_R-PDSS-T7_THT [mm]
pads (7):
  rrect25% 2.5x2.5 hole 1.4: 1(0,0)
  round 2.5 hole 1.4: 2(0,-19.04) 3(12.7,-19.05) 4(15.88,-19.04) 5(19.06,-19.05) 6(34.94,-19.05) 7(34.94,0)
F.SilkS:
  lines w0.254: -1.65,-20.705 36.58,-20.7 36.58,1.66 -1.65,1.66 -1.65,-20.705
Top Assembly:
  lines w0.254: -1.52,-20.575 36.45,-20.575 36.45,1.53 -1.52,1.53 -1.52,-20.575
  text "'.Designator'" at 13.483,-10.84 h1
Top Courtyard:
  lines w0.254: -2.03,-21.08 36.96,-21.08 36.96,2.03 -2.03,2.03 -2.03,-21.08
Top Designator:
  text ".Designator" at 9.847,-10.033 h1.52

## Texas_EUS_R-PDSS-T5_THT [mm]
pads (5):
  rrect25% 2.5x2.5 hole 1.4: 1(0,0)
  round 2.5 hole 1.4: 2(0,-6.35) 3(0,-9.52) 4(15.89,-9.52) 5(15.88,0)
F.SilkS:
  lines w0.254: -1.65,-11.18 17.53,-11.18 17.53,1.66 -1.65,1.66 -1.65,-11.18
Top Assembly:
  lines w0.254: -1.52,-11.05 17.4,-11.05 17.4,1.53 -1.52,1.53 -1.52,-11.05
  text "'.Designator'" at 3.893,-5.6 h1
Top Courtyard:
  lines w0.254: -2.03,-11.56 17.91,-11.56 17.91,2.04 -2.03,2.04 -2.03,-11.56
Top Designator:
  text ".Designator" at 0.322,-5.268 h1.52

## Texas_EUW_R-PDSS-T7_THT [mm]
pads (7):
  rrect25% 2.5x2.5 hole 1.4: 1(0,0)
  round 2.5 hole 1.4: 2(0,-12.7) 3(9.52,-12.7) 4(12.7,-12.7) 5(15.88,-12.7) 6(22.23,-12.7) 7(22.23,0)
F.SilkS:
  lines w0.254: -1.65,-14.36 23.88,-14.36 23.88,1.66 -1.65,1.66 -1.65,-14.36
Top Assembly:
  lines w0.254: -1.52,-14.23 23.75,-14.23 23.75,1.53 -1.52,1.53 -1.52,-14.23
  text "'.Designator'" at 7.053,-7.14 h1
Top Courtyard:
  lines w0.254: -2.03,-14.73 24.26,-14.73 24.26,2.03 -2.03,2.03 -2.03,-14.73
Top Designator:
  text ".Designator" at 3.497,-6.858 h1.52